# Altium schematic symbol library EL-sense_Linear_Voltage_Regulator.SchLib: 8 symbols
Pins are listed as number, name and electrical type; pins without a type are passive.

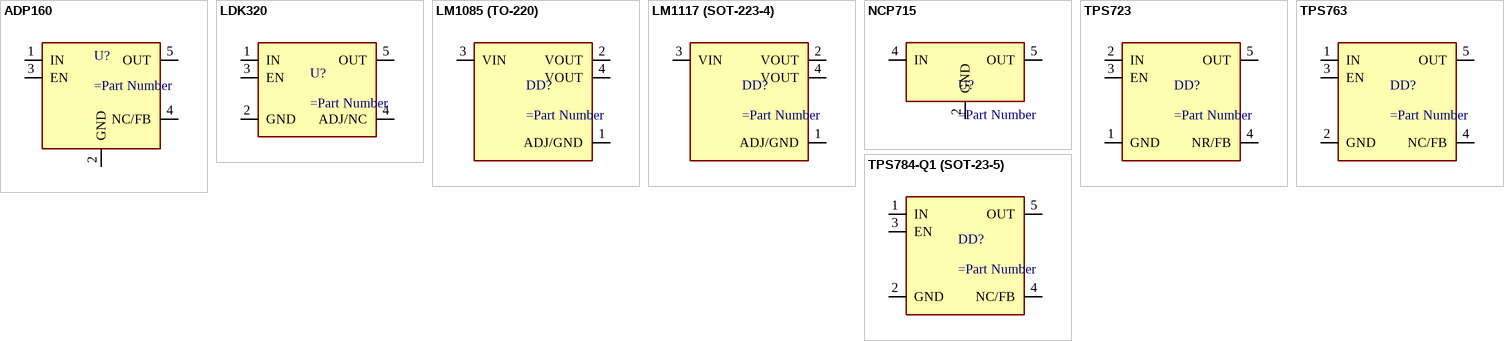
[diagram p0: symbols ADP160 to TPS784-Q1 (SOT-23-5)]

## ADP160
designator U?
pins: 1 IN, 2 GND, 3 EN, 4 NC/FB, 5 OUT

## LDK320
designator U?
pins: 1 IN, 2 GND, 3 EN, 4 ADJ/NC, 5 OUT

## LM1085 (TO-220)
designator DD?
pins: 1 ADJ/GND, 2 VOUT, 3 VIN, 4 VOUT

## LM1117 (SOT-223-4)
designator DD?
pins: 1 ADJ/GND, 2 VOUT, 3 VIN, 4 VOUT

## NCP715
designator U?
pins: 2 GND, 4 IN, 5 OUT

## TPS723
designator DD?
pins: 1 GND, 2 IN, 3 EN, 4 NR/FB, 5 OUT

## TPS763
designator DD?
pins: 1 IN, 2 GND, 3 EN, 4 NC/FB, 5 OUT

## TPS784-Q1 (SOT-23-5)
designator DD?
pins: 1 IN, 2 GND, 3 EN, 4 NC/FB, 5 OUT